# Altium integrated library WL-SMSW (rev22b).IntLib: 29 symbols
Pins are listed as number, name and electrical type; pins without a type are passive.

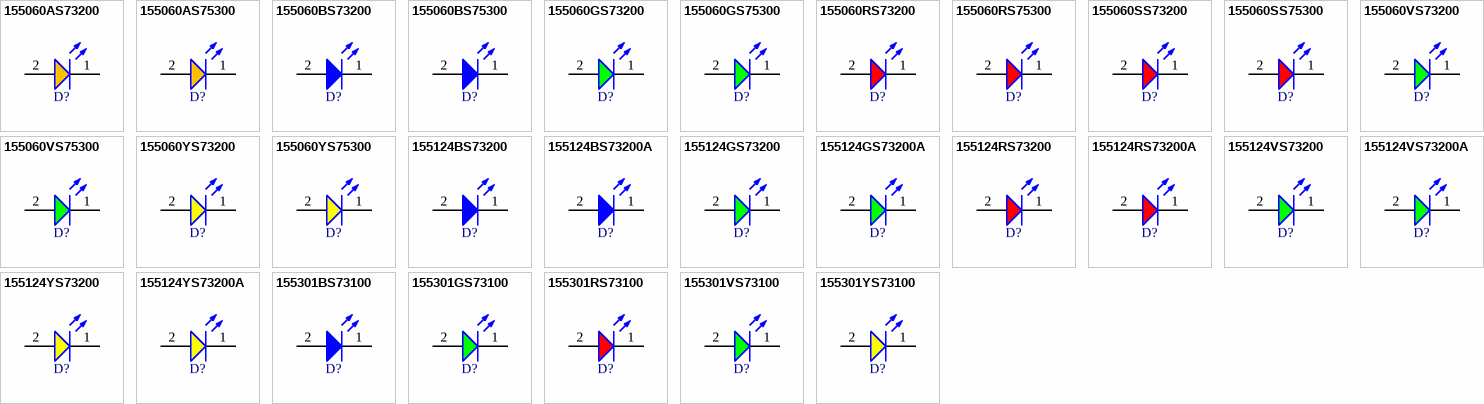
[diagram p0: symbols 155060AS73200 to 155301YS73100]

## 155060AS73200
designator D?, comment Amber, 2V, 120°  (value not drawn)
WL-SMSW Mono-color Side View Waterclear, size 0603, Amber, 2V, 120°; Manufacturer Part Number: 155060AS73200; Manufacturer: Wurth Elektronik; Case/Size Code: 0603; Chip Technology: AlInGaP; Dominant Wavelength: 605nm; Luminous Intensity: 120mcd; Peak Wavelength: 609nm; Category: Signal LEDs; Match Code: WL-SMSW; ComponentLink1Description: Website Link; ComponentLink1URL: https://www.we-online.com/redexpert/article/155060AS73200?ad; ComponentLink2Description: Datasheet Link; ComponentLink2URL: https://www.we-online.com/redexpert/spec/155060AS73200?ad; Mount: Surface Mount; Operating Temperature Max: 85°C; Operating Temperature Min: -40°C; Packaging: Tape and Reel; Length: 1.6mm; Width: 1mm; Height: 0.6mm; Emitting Color: Amber; Forward Voltage: 2V; Viewing Angle: 120°
footprint WL-SMSW_0603_L1.6W1H0.6
simulation model 0603_155060AS73200
pins: 1 K, 2 A

## 155060AS75300
designator D?, comment Amber, 2V, 140°  (value not drawn)
WL-SMSW Mono-color Side View Waterclear, size 0603, Amber, 2V, 140°; Manufacturer Part Number: 155060AS75300; Manufacturer: Wurth Elektronik; Case/Size Code: 0603; Chip Technology: AlInGaP; Dominant Wavelength: 605nm; Luminous Intensity: 120mcd; Peak Wavelength: 610nm; Category: Signal LEDs; Match Code: WL-SMSW; ComponentLink1Description: Website Link; ComponentLink1URL: https://www.we-online.com/redexpert/article/155060AS75300?ad; ComponentLink2Description: Datasheet Link; ComponentLink2URL: https://www.we-online.com/redexpert/spec/155060AS75300?ad; Mount: Surface Mount; Operating Temperature Max: 85°C; Operating Temperature Min: -40°C; Packaging: Tape and Reel; Length: 1.6mm; Width: 0.98mm; Height: 0.8mm; Emitting Color: Amber; Forward Voltage: 2V; Viewing Angle: 140°
footprint WL-SMSW_0603_L1.6W0.98H0.8
simulation model 0603_155060AS75300
pins: 1 K, 2 A

## 155060BS73200
designator D?, comment Blue, 3.2V, 120°  (value not drawn)
WL-SMSW Mono-color Side View Waterclear, size 0603, Blue, 3.2V, 120°; Manufacturer Part Number: 155060BS73200; Manufacturer: Wurth Elektronik; Case/Size Code: 0603; Chip Technology: InGaN; Dominant Wavelength: 470nm; Luminous Intensity: 145mcd; Peak Wavelength: 465nm; Category: Signal LEDs; Match Code: WL-SMSW; ComponentLink1Description: Website Link; ComponentLink1URL: https://www.we-online.com/redexpert/article/155060BS73200?ad; ComponentLink2Description: Datasheet Link; ComponentLink2URL: https://www.we-online.com/redexpert/spec/155060BS73200?ad; Mount: Surface Mount; Operating Temperature Max: 85°C; Operating Temperature Min: -40°C; Packaging: Tape and Reel; Length: 1.6mm; Width: 1mm; Height: 0.6mm; Emitting Color: Blue; Forward Voltage: 3.2V; Viewing Angle: 120°
footprint WL-SMSW_0603_L1.6W1H0.6
simulation model 0603_155060BS73200
pins: 1 K, 2 A

## 155060BS75300
designator D?, comment Blue, 3.2V, 140°  (value not drawn)
WL-SMSW Mono-color Side View Waterclear, size 0603, Blue, 3.2V, 140°; Manufacturer Part Number: 155060BS75300; Manufacturer: Wurth Elektronik; Case/Size Code: 0603; Chip Technology: InGaN; Dominant Wavelength: 470nm; Luminous Intensity: 145mcd; Peak Wavelength: 465nm; Category: Signal LEDs; Match Code: WL-SMSW; ComponentLink1Description: Website Link; ComponentLink1URL: https://www.we-online.com/redexpert/article/155060BS75300?ad; ComponentLink2Description: Datasheet Link; ComponentLink2URL: https://www.we-online.com/redexpert/spec/155060BS75300?ad; Mount: Surface Mount; Operating Temperature Max: 85°C; Operating Temperature Min: -40°C; Packaging: Tape and Reel; Length: 1.6mm; Width: 0.98mm; Height: 0.8mm; Emitting Color: Blue; Forward Voltage: 3.2V; Viewing Angle: 140°
footprint WL-SMSW_0603_L1.6W0.98H0.8
simulation model 0603_155060BS75300
pins: 1 K, 2 A

## 155060GS73200
designator D?, comment Green, 3.3V, 120°  (value not drawn)
WL-SMSW Mono-color Side View Waterclear, size 0603, Green, 3.3V, 120°; Manufacturer Part Number: 155060GS73200; Manufacturer: Wurth Elektronik; Case/Size Code: 0603; Chip Technology: InGaN; Dominant Wavelength: 525nm; Luminous Intensity: 360mcd; Peak Wavelength: 520nm; Category: Signal LEDs; Match Code: WL-SMSW; ComponentLink1Description: Website Link; ComponentLink1URL: https://www.we-online.com/redexpert/article/155060GS73200?ad; ComponentLink2Description: Datasheet Link; ComponentLink2URL: https://www.we-online.com/redexpert/spec/155060GS73200?ad; Mount: Surface Mount; Operating Temperature Max: 85°C; Operating Temperature Min: -40°C; Packaging: Tape and Reel; Length: 1.6mm; Width: 1mm; Height: 0.6mm; Emitting Color: Green; Forward Voltage: 3.3V; Viewing Angle: 120°
footprint WL-SMSW_0603_L1.6W1H0.6
simulation model 0603_155060GS73200
pins: 1 K, 2 A

## 155060GS75300
designator D?, comment Green, 3.2V, 140°  (value not drawn)
WL-SMSW Mono-color Side View Waterclear, size 0603, Green, 3.2V, 140°; Manufacturer Part Number: 155060GS75300; Manufacturer: Wurth Elektronik; Case/Size Code: 0603; Chip Technology: InGaN; Dominant Wavelength: 525nm; Luminous Intensity: 560mcd; Peak Wavelength: 515nm; Category: Signal LEDs; Match Code: WL-SMSW; ComponentLink1Description: Website Link; ComponentLink1URL: https://www.we-online.com/redexpert/article/155060GS75300?ad; ComponentLink2Description: Datasheet Link; ComponentLink2URL: https://www.we-online.com/redexpert/spec/155060GS75300?ad; Mount: Surface Mount; Operating Temperature Max: 85°C; Operating Temperature Min: -40°C; Packaging: Tape and Reel; Length: 1.6mm; Width: 0.98mm; Height: 0.8mm; Emitting Color: Green; Forward Voltage: 3.2V; Viewing Angle: 140°
footprint WL-SMSW_0603_L1.6W0.98H0.8
simulation model 0603_155060GS75300
pins: 1 K, 2 A

## 155060RS73200
designator D?, comment Red, 2V, 120°  (value not drawn)
WL-SMSW Mono-color Side View Waterclear, size 0603, Red, 2V, 120°; Manufacturer Part Number: 155060RS73200; Manufacturer: Wurth Elektronik; Case/Size Code: 0603; Chip Technology: AlInGaP; Dominant Wavelength: 624nm; Luminous Intensity: 150mcd; Peak Wavelength: 632nm; Category: Signal LEDs; Match Code: WL-SMSW; ComponentLink1Description: Website Link; ComponentLink1URL: https://www.we-online.com/redexpert/article/155060RS73200?ad; ComponentLink2Description: Datasheet Link; ComponentLink2URL: https://www.we-online.com/redexpert/spec/155060RS73200?ad; Mount: Surface Mount; Operating Temperature Max: 85°C; Operating Temperature Min: -40°C; Packaging: Tape and Reel; Length: 1.6mm; Width: 1mm; Height: 0.6mm; Emitting Color: Red; Forward Voltage: 2V; Viewing Angle: 120°
footprint WL-SMSW_0603_L1.6W1H0.6
simulation model 0603_155060RS73200
pins: 1 K, 2 A

## 155060RS75300
designator D?, comment Red, 2V, 140°  (value not drawn)
WL-SMSW Mono-color Side View Waterclear, size 0603, Red, 2V, 140°; Manufacturer Part Number: 155060RS75300; Manufacturer: Wurth Elektronik; Case/Size Code: 0603; Chip Technology: AlInGaP; Dominant Wavelength: 625nm; Luminous Intensity: 150mcd; Peak Wavelength: 630nm; Category: Signal LEDs; Match Code: WL-SMSW; ComponentLink1Description: Website Link; ComponentLink1URL: https://www.we-online.com/redexpert/article/155060RS75300?ad; ComponentLink2Description: Datasheet Link; ComponentLink2URL: https://www.we-online.com/redexpert/spec/155060RS75300?ad; Mount: Surface Mount; Operating Temperature Max: 85°C; Operating Temperature Min: -40°C; Packaging: Tape and Reel; Length: 1.6mm; Width: 0.98mm; Height: 0.8mm; Emitting Color: Red; Forward Voltage: 2V; Viewing Angle: 140°
footprint WL-SMSW_0603_L1.6W0.98H0.8
simulation model 0603_155060RS75300
pins: 1 K, 2 A

## 155060SS73200
designator D?, comment Super Red, 2V, 120°  (value not drawn)
WL-SMSW Mono-color Side View Waterclear, size 0603, Super Red, 2V, 120°; Manufacturer Part Number: 155060SS73200; Manufacturer: Wurth Elektronik; Case/Size Code: 0603; Chip Technology: AlInGaP; Dominant Wavelength: 630nm; Luminous Intensity: 80mcd; Peak Wavelength: 645nm; Category: Signal LEDs; Match Code: WL-SMSW; ComponentLink1Description: Website Link; ComponentLink1URL: https://www.we-online.com/redexpert/article/155060SS73200?ad; ComponentLink2Description: Datasheet Link; ComponentLink2URL: https://www.we-online.com/redexpert/spec/155060SS73200?ad; Mount: Surface Mount; Operating Temperature Max: 85°C; Operating Temperature Min: -40°C; Packaging: Tape and Reel; Length: 1.6mm; Width: 1mm; Height: 0.6mm; Emitting Color: Super Red; Forward Voltage: 2V; Viewing Angle: 120°
footprint WL-SMSW_0603_L1.6W1H0.6
simulation model 0603_155060SS73200
pins: 1 K, 2 A

## 155060SS75300
designator D?, comment Super Red, 2V, 140°  (value not drawn)
WL-SMSW Mono-color Side View Waterclear, size 0603, Super Red, 2V, 140°; Manufacturer Part Number: 155060SS75300; Manufacturer: Wurth Elektronik; Case/Size Code: 0603; Chip Technology: AlInGaP; Dominant Wavelength: 630nm; Luminous Intensity: 80mcd; Peak Wavelength: 645nm; Category: Signal LEDs; Match Code: WL-SMSW; ComponentLink1Description: Website Link; ComponentLink1URL: https://www.we-online.com/redexpert/article/155060SS75300?ad; ComponentLink2Description: Datasheet Link; ComponentLink2URL: https://www.we-online.com/redexpert/spec/155060SS75300?ad; Mount: Surface Mount; Operating Temperature Max: 85°C; Operating Temperature Min: -40°C; Packaging: Tape and Reel; Length: 1.6mm; Width: 0.98mm; Height: 0.8mm; Emitting Color: Super Red; Forward Voltage: 2V; Viewing Angle: 140°
footprint WL-SMSW_0603_L1.6W0.98H0.8
simulation model 0603_155060SS75300
pins: 1 K, 2 A

## 155060VS73200
designator D?, comment Bright Green, 2V, 120°  (value not drawn)
WL-SMSW Mono-color Side View Waterclear, size 0603, Bright Green, 2V, 120°; Manufacturer Part Number: 155060VS73200; Manufacturer: Wurth Elektronik; Case/Size Code: 0603; Chip Technology: AlInGaP; Dominant Wavelength: 573nm; Luminous Intensity: 70mcd; Peak Wavelength: 575nm; Category: Signal LEDs; Match Code: WL-SMSW; ComponentLink1Description: Website Link; ComponentLink1URL: https://www.we-online.com/redexpert/article/155060VS73200?ad; ComponentLink2Description: Datasheet Link; ComponentLink2URL: https://www.we-online.com/redexpert/spec/155060VS73200?ad; Mount: Surface Mount; Operating Temperature Max: 85°C; Operating Temperature Min: -40°C; Packaging: Tape and Reel; Length: 1.6mm; Width: 1mm; Height: 0.6mm; Emitting Color: Bright Green; Forward Voltage: 2V; Viewing Angle: 120°
footprint WL-SMSW_0603_L1.6W1H0.6
simulation model 0603_155060VS73200
pins: 1 K, 2 A

## 155060VS75300
designator D?, comment Bright Green, 2V, 140°  (value not drawn)
WL-SMSW Mono-color Side View Waterclear, size 0603, Bright Green, 2V, 140°; Manufacturer Part Number: 155060VS75300; Manufacturer: Wurth Elektronik; Case/Size Code: 0603; Chip Technology: AlInGaP; Dominant Wavelength: 570nm; Luminous Intensity: 60mcd; Peak Wavelength: 572nm; Category: Signal LEDs; Match Code: WL-SMSW; ComponentLink1Description: Website Link; ComponentLink1URL: https://www.we-online.com/redexpert/article/155060VS75300?ad; ComponentLink2Description: Datasheet Link; ComponentLink2URL: https://www.we-online.com/redexpert/spec/155060VS75300?ad; Mount: Surface Mount; Operating Temperature Max: 85°C; Operating Temperature Min: -40°C; Packaging: Tape and Reel; Length: 1.6mm; Width: 0.98mm; Height: 0.8mm; Emitting Color: Bright Green; Forward Voltage: 2V; Viewing Angle: 140°
footprint WL-SMSW_0603_L1.6W0.98H0.8
simulation model 0603_155060VS75300
pins: 1 K, 2 A

## 155060YS73200
designator D?, comment Yellow, 2V, 120°  (value not drawn)
WL-SMSW Mono-color Side View Waterclear, size 0603, Yellow, 2V, 120°; Manufacturer Part Number: 155060YS73200; Manufacturer: Wurth Elektronik; Case/Size Code: 0603; Chip Technology: AlInGaP; Dominant Wavelength: 589nm; Luminous Intensity: 150mcd; Peak Wavelength: 591nm; Category: Signal LEDs; Match Code: WL-SMSW; ComponentLink1Description: Website Link; ComponentLink1URL: https://www.we-online.com/redexpert/article/155060YS73200?ad; ComponentLink2Description: Datasheet Link; ComponentLink2URL: https://www.we-online.com/redexpert/spec/155060YS73200?ad; Mount: Surface Mount; Operating Temperature Max: 85°C; Operating Temperature Min: -40°C; Packaging: Tape and Reel; Length: 1.6mm; Width: 1mm; Height: 0.6mm; Emitting Color: Yellow; Forward Voltage: 2V; Viewing Angle: 120°
footprint WL-SMSW_0603_L1.6W1H0.6
simulation model 0603_155060YS73200
pins: 1 K, 2 A

## 155060YS75300
designator D?, comment Yellow, 2V, 140°  (value not drawn)
WL-SMSW Mono-color Side View Waterclear, size 0603, Yellow, 2V, 140°; Manufacturer Part Number: 155060YS75300; Manufacturer: Wurth Elektronik; Case/Size Code: 0603; Chip Technology: AlInGaP; Dominant Wavelength: 590nm; Luminous Intensity: 150mcd; Peak Wavelength: 595nm; Category: Signal LEDs; Match Code: WL-SMSW; ComponentLink1Description: Website Link; ComponentLink1URL: https://www.we-online.com/redexpert/article/155060YS75300?ad; ComponentLink2Description: Datasheet Link; ComponentLink2URL: https://www.we-online.com/redexpert/spec/155060YS75300?ad; Mount: Surface Mount; Operating Temperature Max: 85°C; Operating Temperature Min: -40°C; Packaging: Tape and Reel; Length: 1.6mm; Width: 0.98mm; Height: 0.8mm; Emitting Color: Yellow; Forward Voltage: 2V; Viewing Angle: 140°
footprint WL-SMSW_0603_L1.6W0.98H0.8
simulation model 0603_155060YS75300
pins: 1 K, 2 A

## 155124BS73200
designator D?, comment Blue, 3.4V, 120°  (value not drawn)
WL-SMSW Mono-color Side View Waterclear, size 1204, Blue, 3.4V, 120°; Manufacturer Part Number: 155124BS73200; Manufacturer: Wurth Elektronik; Case/Size Code: 1204; Chip Technology: InGaN; Dominant Wavelength: 470nm; Luminous Intensity: 150mcd; Peak Wavelength: 468nm; Category: Signal LEDs; Match Code: WL-SMSW; ComponentLink1Description: Website Link; ComponentLink1URL: https://www.we-online.com/redexpert/article/155124BS73200?ad; ComponentLink2Description: Datasheet Link; ComponentLink2URL: https://www.we-online.com/redexpert/spec/155124BS73200?ad; Mount: Surface Mount; Operating Temperature Max: 85°C; Operating Temperature Min: -40°C; Packaging: Tape and Reel; Length: 3.2mm; Width: 1.5mm; Height: 1mm; Emitting Color: Blue; Forward Voltage: 3.4V; Viewing Angle: 120°
footprint WL-SMSW_1204_L3.2W1.5H1
simulation model 1204_155124BS73200
pins: 1 K, 2 A

## 155124BS73200A
designator D?, comment Blue, 3.2V, 120°  (value not drawn)
WL-SMSW Mono-color Side View Waterclear, size 1204, Blue, 3.2V, 120°; Manufacturer Part Number: 155124BS73200A; Manufacturer: Wurth Elektronik; Case/Size Code: 1204; Chip Technology: InGaN; Dominant Wavelength: 470nm; Luminous Intensity: 120mcd; Peak Wavelength: 465nm; Category: Signal LEDs; Match Code: WL-SMSW; ComponentLink1Description: Website Link; ComponentLink1URL: https://www.we-online.com/redexpert/article/155124BS73200A?ad; ComponentLink2Description: Datasheet Link; ComponentLink2URL: https://www.we-online.com/redexpert/spec/155124BS73200A?ad; Mount: Surface Mount; Operating Temperature Max: 85°C; Operating Temperature Min: -40°C; Packaging: Tape and Reel; Length: 3.2mm; Width: 1.5mm; Height: 1mm; Emitting Color: Blue; Forward Voltage: 3.2V; Viewing Angle: 120°
footprint WL-SMSW_1204_L3.2W1.5H1
simulation model 1204_155124BS73200A
pins: 1 K, 2 A

## 155124GS73200
designator D?, comment Green, 3.3V, 120°  (value not drawn)
WL-SMSW Mono-color Side View Waterclear, size 1204, Green, 3.3V, 120°; Manufacturer Part Number: 155124GS73200; Manufacturer: Wurth Elektronik; Case/Size Code: 1204; Chip Technology: InGaN; Dominant Wavelength: 525nm; Luminous Intensity: 600mcd; Peak Wavelength: 520nm; Category: Signal LEDs; Match Code: WL-SMSW; ComponentLink1Description: Website Link; ComponentLink1URL: https://www.we-online.com/redexpert/article/155124GS73200?ad; ComponentLink2Description: Datasheet Link; ComponentLink2URL: https://www.we-online.com/redexpert/spec/155124GS73200?ad; Mount: Surface Mount; Operating Temperature Max: 85°C; Operating Temperature Min: -40°C; Packaging: Tape and Reel; Length: 3.2mm; Width: 1.5mm; Height: 1mm; Emitting Color: Green; Forward Voltage: 3.3V; Viewing Angle: 120°
footprint WL-SMSW_1204_L3.2W1.5H1
simulation model 1204_155124GS73200
pins: 1 K, 2 A

## 155124GS73200A
designator D?, comment Green, 3.3V, 120°  (value not drawn)
WL-SMSW Mono-color Side View Waterclear, size 1204, Green, 3.3V, 120°; Manufacturer Part Number: 155124GS73200A; Manufacturer: Wurth Elektronik; Case/Size Code: 1204; Chip Technology: InGaN; Dominant Wavelength: 525nm; Luminous Intensity: 250mcd; Peak Wavelength: 520nm; Category: Signal LEDs; Match Code: WL-SMSW; ComponentLink1Description: Website Link; ComponentLink1URL: https://www.we-online.com/redexpert/article/155124GS73200A?ad; ComponentLink2Description: Datasheet Link; ComponentLink2URL: https://www.we-online.com/redexpert/spec/155124GS73200A?ad; Mount: Surface Mount; Operating Temperature Max: 85°C; Operating Temperature Min: -40°C; Packaging: Tape and Reel; Length: 3.2mm; Width: 1.5mm; Height: 1mm; Emitting Color: Green; Forward Voltage: 3.3V; Viewing Angle: 120°
footprint WL-SMSW_1204_L3.2W1.5H1
simulation model 1204_155124GS73200A
pins: 1 K, 2 A

## 155124RS73200
designator D?, comment Red, 2V, 120°  (value not drawn)
WL-SMSW Mono-color Side View Waterclear, size 1204, Red, 2V, 120°; Manufacturer Part Number: 155124RS73200; Manufacturer: Wurth Elektronik; Case/Size Code: 1204; Chip Technology: AlInGaP; Dominant Wavelength: 624nm; Luminous Intensity: 130mcd; Peak Wavelength: 632nm; Category: Signal LEDs; Match Code: WL-SMSW; ComponentLink1Description: Website Link; ComponentLink1URL: https://www.we-online.com/redexpert/article/155124RS73200?ad; ComponentLink2Description: Datasheet Link; ComponentLink2URL: https://www.we-online.com/redexpert/spec/155124RS73200?ad; Mount: Surface Mount; Operating Temperature Max: 85°C; Operating Temperature Min: -40°C; Packaging: Tape and Reel; Length: 3.2mm; Width: 1.5mm; Height: 1mm; Emitting Color: Red; Forward Voltage: 2V; Viewing Angle: 120°
footprint WL-SMSW_1204_L3.2W1.5H1
simulation model 1204_155124RS73200
pins: 1 K, 2 A

## 155124RS73200A
designator D?, comment Red, 2V, 120°  (value not drawn)
WL-SMSW Mono-color Side View Waterclear, size 1204, Red, 2V, 120°; Manufacturer Part Number: 155124RS73200A; Manufacturer: Wurth Elektronik; Case/Size Code: 1204; Chip Technology: AlInGaP; Dominant Wavelength: 624nm; Luminous Intensity: 70mcd; Peak Wavelength: 632nm; Category: Signal LEDs; Match Code: WL-SMSW; ComponentLink1Description: Website Link; ComponentLink1URL: https://www.we-online.com/redexpert/article/155124RS73200A?ad; ComponentLink2Description: Datasheet Link; ComponentLink2URL: https://www.we-online.com/redexpert/spec/155124RS73200A?ad; Mount: Surface Mount; Operating Temperature Max: 85°C; Operating Temperature Min: -40°C; Packaging: Tape and Reel; Length: 3.2mm; Width: 1.5mm; Height: 1mm; Emitting Color: Red; Forward Voltage: 2V; Viewing Angle: 120°
footprint WL-SMSW_1204_L3.2W1.5H1
simulation model 1204_155124RS73200A
pins: 1 K, 2 A

## 155124VS73200
designator D?, comment Bright Green, 2V, 120°  (value not drawn)
WL-SMSW Mono-color Side View Waterclear, size 1204, Bright Green, 2V, 120°; Manufacturer Part Number: 155124VS73200; Manufacturer: Wurth Elektronik; Case/Size Code: 1204; Chip Technology: AlInGaP; Dominant Wavelength: 573nm; Luminous Intensity: 50mcd; Peak Wavelength: 575nm; Category: Signal LEDs; Match Code: WL-SMSW; ComponentLink1Description: Website Link; ComponentLink1URL: https://www.we-online.com/redexpert/article/155124VS73200?ad; ComponentLink2Description: Datasheet Link; ComponentLink2URL: https://www.we-online.com/redexpert/spec/155124VS73200?ad; Mount: Surface Mount; Operating Temperature Max: 85°C; Operating Temperature Min: -40°C; Packaging: Tape and Reel; Length: 3.2mm; Width: 1.5mm; Height: 1mm; Emitting Color: Bright Green; Forward Voltage: 2V; Viewing Angle: 120°
footprint WL-SMSW_1204_L3.2W1.5H1
simulation model 1204_155124VS73200
pins: 1 K, 2 A

## 155124VS73200A
designator D?, comment Bright Green, 2V, 120°  (value not drawn)
WL-SMSW Mono-color Side View Waterclear, size 1204, Bright Green, 2V, 120°; Manufacturer Part Number: 155124VS73200A; Manufacturer: Wurth Elektronik; Case/Size Code: 1204; Chip Technology: AlInGaP; Dominant Wavelength: 573nm; Luminous Intensity: 50mcd; Peak Wavelength: 575nm; Category: Signal LEDs; Match Code: WL-SMSW; ComponentLink1Description: Website Link; ComponentLink1URL: https://www.we-online.com/redexpert/article/155124VS73200A?ad; ComponentLink2Description: Datasheet Link; ComponentLink2URL: https://www.we-online.com/redexpert/spec/155124VS73200A?ad; Mount: Surface Mount; Operating Temperature Max: 85°C; Operating Temperature Min: -40°C; Packaging: Tape and Reel; Length: 3.2mm; Width: 1.5mm; Height: 1mm; Emitting Color: Bright Green; Forward Voltage: 2V; Viewing Angle: 120°
footprint WL-SMSW_1204_L3.2W1.5H1
simulation model 1204_155124VS73200A
pins: 1 K, 2 A

## 155124YS73200
designator D?, comment Yellow, 2V, 120°  (value not drawn)
WL-SMSW Mono-color Side View Waterclear, size 1204, Yellow, 2V, 120°; Manufacturer Part Number: 155124YS73200; Manufacturer: Wurth Elektronik; Case/Size Code: 1204; Chip Technology: AlInGaP; Dominant Wavelength: 589nm; Luminous Intensity: 130mcd; Peak Wavelength: 592nm; Category: Signal LEDs; Match Code: WL-SMSW; ComponentLink1Description: Website Link; ComponentLink1URL: https://www.we-online.com/redexpert/article/155124YS73200?ad; ComponentLink2Description: Datasheet Link; ComponentLink2URL: https://www.we-online.com/redexpert/spec/155124YS73200?ad; Mount: Surface Mount; Operating Temperature Max: 85°C; Operating Temperature Min: -40°C; Packaging: Tape and Reel; Length: 3.2mm; Width: 1.5mm; Height: 1mm; Emitting Color: Yellow; Forward Voltage: 2V; Viewing Angle: 120°
footprint WL-SMSW_1204_L3.2W1.5H1
simulation model 1204_155124YS73200
pins: 1 K, 2 A

## 155124YS73200A
designator D?, comment Yellow, 2V, 120°  (value not drawn)
WL-SMSW Mono-color Side View Waterclear, size 1204, Yellow, 2V, 120°; Manufacturer Part Number: 155124YS73200A; Manufacturer: Wurth Elektronik; Case/Size Code: 1204; Chip Technology: AlInGaP; Dominant Wavelength: 589nm; Luminous Intensity: 80mcd; Peak Wavelength: 591nm; Category: Signal LEDs; Match Code: WL-SMSW; ComponentLink1Description: Website Link; ComponentLink1URL: https://www.we-online.com/redexpert/article/155124YS73200A?ad; ComponentLink2Description: Datasheet Link; ComponentLink2URL: https://www.we-online.com/redexpert/spec/155124YS73200A?ad; Mount: Surface Mount; Operating Temperature Max: 85°C; Operating Temperature Min: -40°C; Packaging: Tape and Reel; Length: 3.2mm; Width: 1.5mm; Height: 1mm; Emitting Color: Yellow; Forward Voltage: 2V; Viewing Angle: 120°
footprint WL-SMSW_1204_L3.2W1.5H1
simulation model 1204_155124YS73200A
pins: 1 K, 2 A

## 155301BS73100
designator D?, comment Blue, 3.2V, 120°  (value not drawn)
WL-SMSW Mono-color Side View Waterclear, size 3014, Blue, 3.2V, 120°; Manufacturer Part Number: 155301BS73100; Manufacturer: Wurth Elektronik; Case/Size Code: 3014; Chip Technology: InGaN; Dominant Wavelength: 470nm; Luminous Intensity: 400mcd; Peak Wavelength: 465nm; Category: Signal LEDs; Match Code: WL-SMSW; ComponentLink1Description: Website Link; ComponentLink1URL: https://www.we-online.com/redexpert/article/155301BS73100?ad; ComponentLink2Description: Datasheet Link; ComponentLink2URL: https://www.we-online.com/redexpert/spec/155301BS73100?ad; Mount: Surface Mount; Operating Temperature Max: 85°C; Operating Temperature Min: -40°C; Packaging: Tape and Reel; Length: 3mm; Width: 1.38mm; Height: 1.55mm; Emitting Color: Blue; Forward Voltage: 3.2V; Viewing Angle: 120°
footprint WL-SMSW_3014_L3W1.38H1.55
simulation model 3014_155301BS73100
pins: 1 K, 2 A

## 155301GS73100
designator D?, comment Green, 3.1V, 120°  (value not drawn)
WL-SMSW Mono-color Side View Waterclear, size 3014, Green, 3.1V, 120°; Manufacturer Part Number: 155301GS73100; Manufacturer: Wurth Elektronik; Case/Size Code: 3014; Chip Technology: InGaN; Dominant Wavelength: 525nm; Luminous Intensity: 1500mcd; Peak Wavelength: 515nm; Category: Signal LEDs; Match Code: WL-SMSW; ComponentLink1Description: Website Link; ComponentLink1URL: https://www.we-online.com/redexpert/article/155301GS73100?ad; ComponentLink2Description: Datasheet Link; ComponentLink2URL: https://www.we-online.com/redexpert/spec/155301GS73100?ad; Mount: Surface Mount; Operating Temperature Max: 85°C; Operating Temperature Min: -40°C; Packaging: Tape and Reel; Length: 3mm; Width: 1.38mm; Height: 1.55mm; Emitting Color: Green; Forward Voltage: 3.1V; Viewing Angle: 120°
footprint WL-SMSW_3014_L3W1.38H1.55
simulation model 3014_155301GS73100
pins: 1 K, 2 A

## 155301RS73100
designator D?, comment Red, 2V, 120°  (value not drawn)
WL-SMSW Mono-color Side View Waterclear, size 3014, Red, 2V, 120°; Manufacturer Part Number: 155301RS73100; Manufacturer: Wurth Elektronik; Case/Size Code: 3014; Chip Technology: AlInGaP; Dominant Wavelength: 625nm; Luminous Intensity: 350mcd; Peak Wavelength: 630nm; Category: Signal LEDs; Match Code: WL-SMSW; ComponentLink1Description: Website Link; ComponentLink1URL: https://www.we-online.com/redexpert/article/155301RS73100?ad; ComponentLink2Description: Datasheet Link; ComponentLink2URL: https://www.we-online.com/redexpert/spec/155301RS73100?ad; Mount: Surface Mount; Operating Temperature Max: 85°C; Operating Temperature Min: -40°C; Packaging: Tape and Reel; Length: 3mm; Width: 1.38mm; Height: 1.55mm; Emitting Color: Red; Forward Voltage: 2V; Viewing Angle: 120°
footprint WL-SMSW_3014_L3W1.38H1.55
simulation model 3014_155301RS73100
pins: 1 K, 2 A

## 155301VS73100
designator D?, comment Bright Green, 2V, 120°  (value not drawn)
WL-SMSW Mono-color Side View Waterclear, size 3014, Bright Green, 2V, 120°; Manufacturer Part Number: 155301VS73100; Manufacturer: Wurth Elektronik; Case/Size Code: 3014; Chip Technology: AlInGaP; Dominant Wavelength: 570nm; Luminous Intensity: 120mcd; Peak Wavelength: 572nm; Category: Signal LEDs; Match Code: WL-SMSW; ComponentLink1Description: Website Link; ComponentLink1URL: https://www.we-online.com/redexpert/article/155301VS73100?ad; ComponentLink2Description: Datasheet Link; ComponentLink2URL: https://www.we-online.com/redexpert/spec/155301VS73100?ad; Mount: Surface Mount; Operating Temperature Max: 85°C; Operating Temperature Min: -40°C; Packaging: Tape and Reel; Length: 3mm; Width: 1.38mm; Height: 1.55mm; Emitting Color: Bright Green; Forward Voltage: 2V; Viewing Angle: 120°
footprint WL-SMSW_3014_L3W1.38H1.55
simulation model 3014_155301VS73100
pins: 1 K, 2 A

## 155301YS73100
designator D?, comment Yellow, 2V, 120°  (value not drawn)
WL-SMSW Mono-color Side View Waterclear, size 3014, Yellow, 2V, 120°; Manufacturer Part Number: 155301YS73100; Manufacturer: Wurth Elektronik; Case/Size Code: 3014; Chip Technology: AlInGaP; Dominant Wavelength: 590nm; Luminous Intensity: 300mcd; Peak Wavelength: 592nm; Category: Signal LEDs; Match Code: WL-SMSW; ComponentLink1Description: Website Link; ComponentLink1URL: https://www.we-online.com/redexpert/article/155301YS73100?ad; ComponentLink2Description: Datasheet Link; ComponentLink2URL: https://www.we-online.com/redexpert/spec/155301YS73100?ad; Mount: Surface Mount; Operating Temperature Max: 85°C; Operating Temperature Min: -40°C; Packaging: Tape and Reel; Length: 3mm; Width: 1.38mm; Height: 1.55mm; Emitting Color: Yellow; Forward Voltage: 2V; Viewing Angle: 120°
footprint WL-SMSW_3014_L3W1.38H1.55
simulation model 3014_155301YS73100
pins: 1 K, 2 A